# EAGLE library part LM2674M-3.3 (library LM2674M-3.3)
Stepdown switching regulator,LM2674M-3.3 Source: Datasheet <http://www.ti.com/lit/ds/symlink/lm2674.pdf>
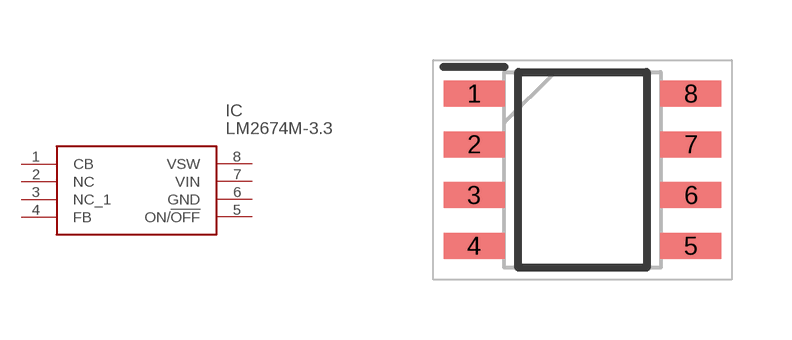
[diagram p0: symbol with the pads of SOIC127P600X175-8N; footprint SOIC127P600X175-8N]

Designator prefix IC

## LM2674M-3.3 (Description: Stepdown switching regulator,LM2674M-3.3; Height: 1.75mm; Manufacturer_Name: Texas Instruments; Manufacturer_Part_Number: LM2674M-3.3; Mouser_Part_Number: 926-LM2674M-33; Mouser_Price-Stock: https://www.mouser.com/Search/Refine.aspx?Keyword=926-LM2674M-33; RS_Part_Number: 4699418; RS_Price-Stock: http://uk.rs-online.com/web/p/products/4699418)  [SOIC127P600X175-8N]
1  CB
2  NC  nc
3  NC_1
4  FB
5  ON/!OFF
6  GND  pwr
7  VIN  in
8  VSW

## Footprint SOIC127P600X175-8N (pad centres in mm)
D (R-PDSO-G8)
smd 1.525 x 0.65: 1 -2.712,1.905; 2 -2.712,0.635; 3 -2.712,-0.635; 4 -2.712,-1.905; 5 2.712,-1.905; 6 2.712,-0.635; 7 2.712,0.635; 8 2.712,1.905